# Altium integrated library TI Audio CODEC.IntLib: 199 symbols (part 7 of 17)
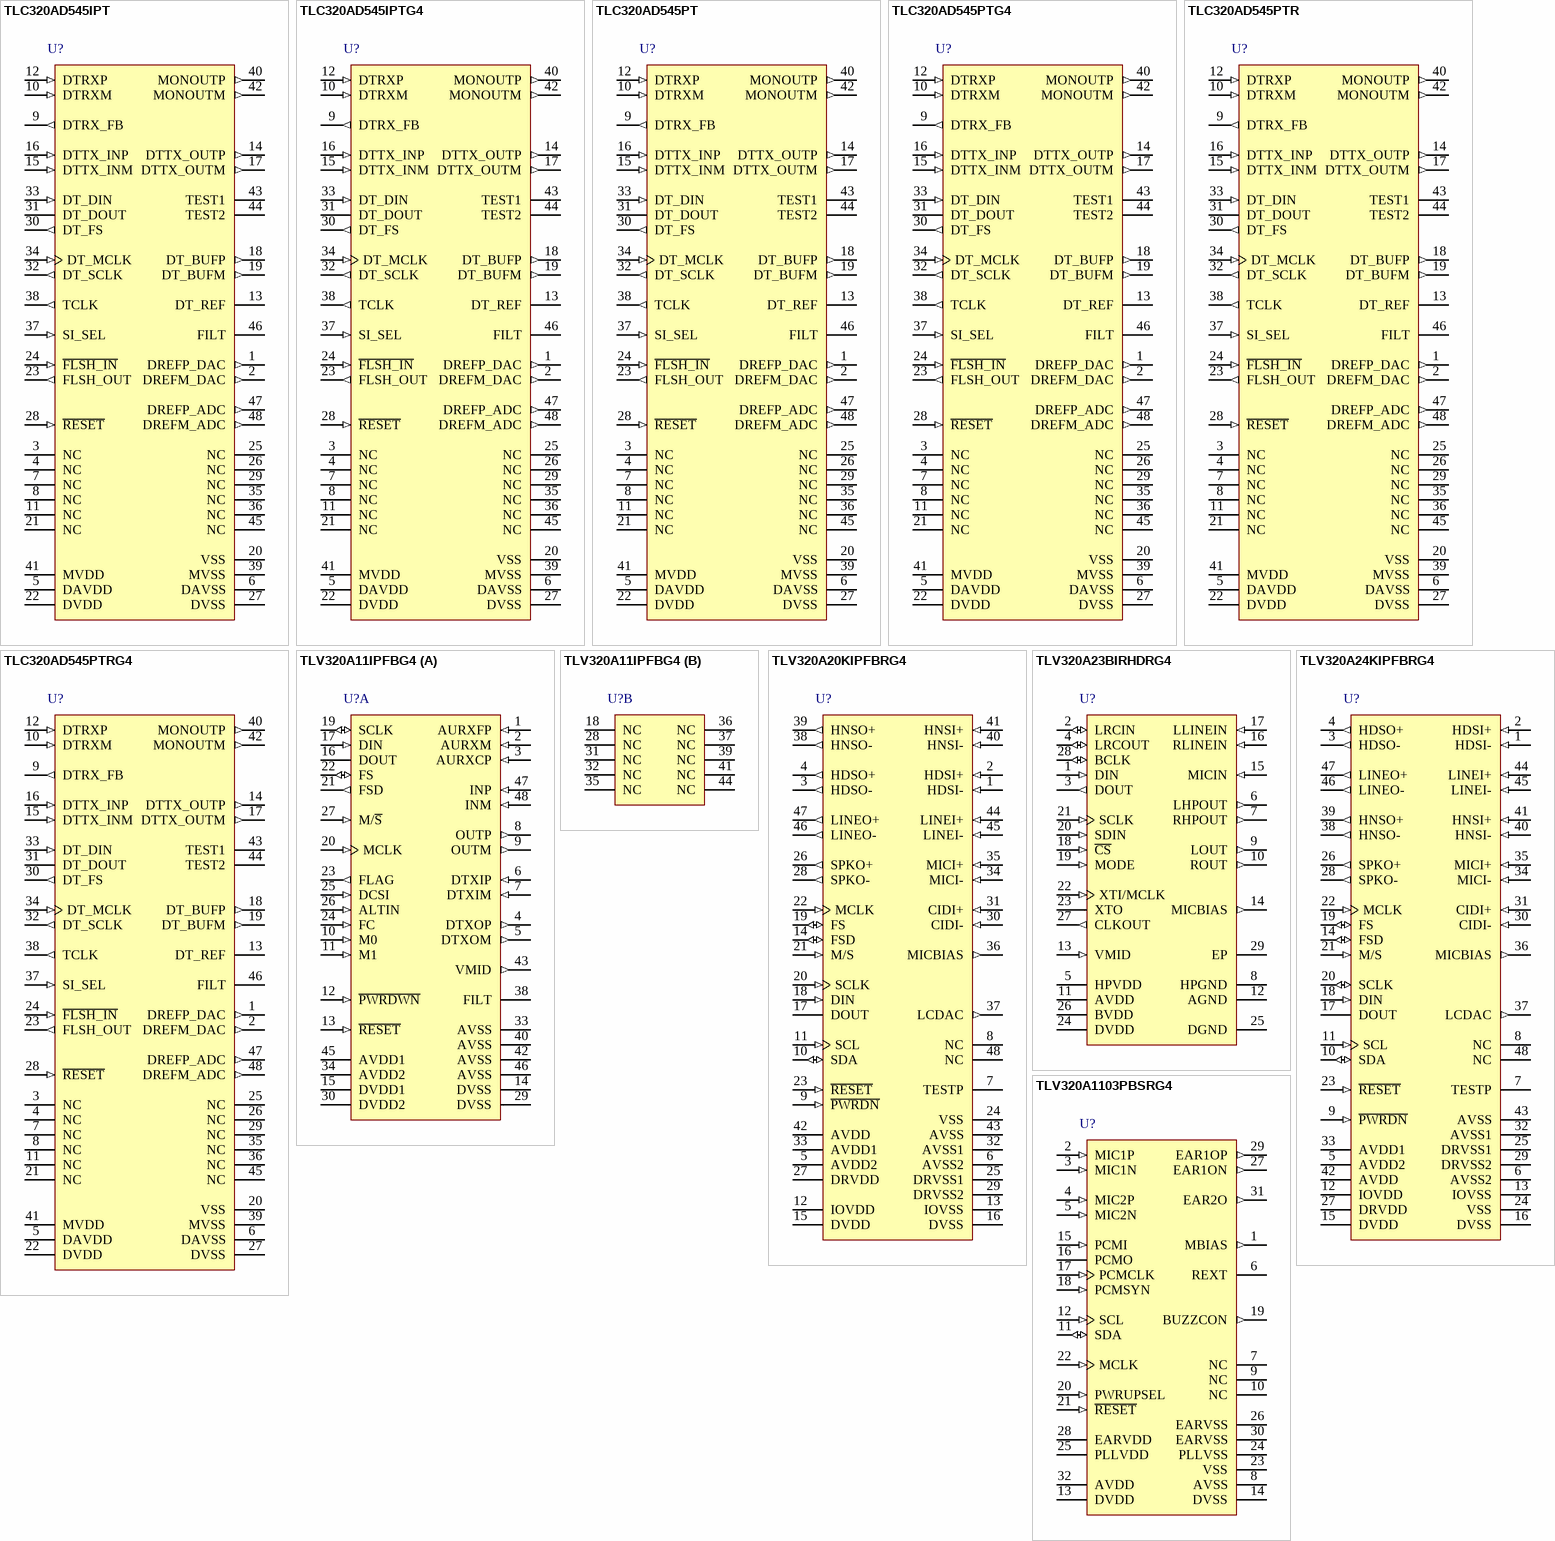
[diagram p19: symbols TLC320AD545IPT to TLV320A1103PBSRG4]

## TLC320AD545PT
designator U?
Single Channel CODEC with Hybrid Op Amps & Speaker Driver, 1 ADC and 1 DAC, 87 dB DAC SNR, 0 to 70 degC, 48-pin LQFP (PT), Green (RoHS & no Sb/Br); Manufacturer: Texas Instruments; PartNumber: TLC320AD545PT; # ADCs (typ): 1; Control Interface: H/W; DAC SNR: 87; Line Powered: TRUE; Sampling Rate (Max) (kHz): 11.025; Speaker Amp Type: Class-AB; DatasheetVersion: SLAS206C; PackageVersion: revC, Nov-1996; PackageReference: PT48; PackageDescription: 48-Pin Plastic Quad Flat Pack, 7 x 7 mm Body, 0.5 mm Pitch; Supplier 1: Digi-Key; Supplier Part Number 1: 296-10277-ND; Supplier 2: Newark; Supplier Part Number 2: 76C7279; Supplier 3: Mouser; Supplier Part Number 3: 595-TLC320AD545PT; # DACs: 1; Mounting Technology: Surface Mount; Code_JEDEC: MS-026; ComponentLink1Description: Datasheet; ComponentLink1URL: http://www.ti.com/general/docs/lit/getliterature.tsp?genericPartNumber=TLC320AD545&fileType=pdf
footprint PT48_N (Thin QFP, 48-Leads, Body 7x7mm, Pitch 0.5mm, IPC Medium Density)
footprint PT48_L (Thin QFP, 48-Leads, Body 7x7mm, Pitch 0.5mm, IPC High Density)
footprint PT48_M (Thin QFP, 48-Leads, Body 7x7mm, Pitch 0.5mm, IPC Low Density)
pins: 1 DREFP_DAC (out) "DAC voltage reference filter output. DREFP_DAC provides for lowpass filtering the internal bandgap reference. The optimal ceramic capacitor value is 0.1 µF connected between DREFM_DAC and DREFP_DAC. The dc voltage at this (See Datasheet)", 2 DREFM_DAC (out) "DAC voltage reference filter output. DREFM_DAC provides for lowpass filtering the internal bandgap reference. The optimal ceramic capacitor value is 0.1  µF connected between DREFM_ADC and DREFP_ADC. The nominal dc voltage (See Datasheet)", 3 NC "No connection", 4 NC "No connection", 5 DAVDD (power) "Analog power supply (5 V/3.3 V)", 6 DAVSS (power) "Analog ground", 7 NC "No connection", 8 NC "No connection", 9 DTRX_FB (out) "Receive path amplifier feedback node. DTRX_FB terminal is connected to the noninverting output of the receive path amplifier and allows a parallel resistor/capacitor to be placed in the amplifier feedback path for setting (See Datasheet)", 10 DTRXM (in) "Receive path amplifier analog inverting input", 11 NC "No connection", 12 DTRXP (in) "Receive path amplifier analog noninverting input", 13 DT_REF "Reference voltage for the transformer at 2.5 V for a 5-V DAVDD supply and 1.5 V for a 3.3-V DAVDD supply. The maximum source or sink current at this terminal is 2.5 mA. DT_REF must be left unconnected in differential hybrid.", 14 DTTX_OUTP (out) "Transmit amplifier analog noninverting output", 15 DTTX_INM (in) "Transmit amplifier analog inverting input. This node is normally fed by the DT_BUFM output through an input resistor", 16 DTTX_INP (in) "Transmit amplifier analog noninverting input. This node is normally fed by the DT_BUFP output through an input resistor. DTTX_INP must be shorted to DTTX_OUTM in single-ended hybrid.", 17 DTTX_OUTM (out) "Transmit amplifier analog inverting output. DTTX_OUTM must be shorted to DTTX_INP in single-ended hybrid.", 18 DT_BUFP (out) "Buffer amp analog noninverting output. DT_BUFP can be programmed for 0 dB, -6 dB, -12 dB and -18 dB gain or muted using the control registers. This output is normally fed to the DTTX_INP terminal through an input resistor. (See Datasheet)", 19 DT_BUFM (out) "Buffer amp analog inverting output. DT_BUFM can be programmed for 0 dB, -6 dB, -12 dB, and -18 dB gain or muted using the control registers. This output is normally fed to the DTTX_INM terminal through an input resistor.", 20 VSS (power) "Internal substrate connection. VSS should be tied to DAVSS .", 21 NC "No connection", 22 DVDD (power) "Digital and RESET circuit power supply (5 V/3.3 V)", 23 FLSH_OUT (out) "Power output to write/erase flash EEPROM device (such as Intel  28F400B or AMD Am29F400). Supplies 45 mA maximum from 5 V when F\L\S\H\_\I\N\ is brought low.", 24 ~{FLSH_IN} (in) "External ASIC logic input. When brought low, F\L\S\H\_\I\N\ enables the FLSH_OUT output.", 25 NC "No connection", 26 NC "No connection", 27 DVSS (power) "Digital and RESET circuit ground", 28 ~{RESET} (in) "Codec device reset. R\E\S\E\T\  initializes all device internal registers to default values. This signal is active low.", 29 NC "No connection", 30 DT_FS (out) "Serial port frame sync signal. DT_FS signals the beginning of transmit for ADC data and receiving of DAC data. This signal can be active high (FS high mode) or active low (FS low mode) depending on the voltage applied to (See Datasheet)", 31 DT_DOUT (hiz) "Digital data output. ADC output bits transmit data during the frame sync period which is synchronized to DT_SCLK. DT_DOUT is at high impedance when DT_FS is not activated.", 32 DT_SCLK (out) "Shift clock signal. DT_SCLK clocks serial data into DT_DIN and out of DT_DOUT during the frame-sync interval. DT_SCLK rate is DT_MCLK/2.", 33 DT_DIN (in) "Digital data input. DT_DIN handles DAC input data as well as control register programming information during frame sync interval and is synchronized to DT_SCLK.", 34 DT_MCLK (in) "Master clock input. All internal clocks are derived from this clock.", 35 NC "No connection", 36 NC "No connection", 37 SI_SEL (in) "Serial interface mode select. When SI_SEL is tied to DVDD,  the serial port is in FS high mode. When SI_SEL is tied to DVSS, the serial port is in FS low mode. (see Section 4, Serial Communications).", 38 TCLK (out) "Test output port. TCLK is for factory test only and should be either connected to ground or left unconnected.", 39 MVSS (power) "Monitor amplifier ground", 40 MONOUTP (out) "Analog output from 8-ohm monitor speaker amplifier which can be set for 0-dB gain or muted through the control registers.", 41 MVDD (power) "Monitor amplifier supply (5 V/3.3 V)", 42 MONOUTM (out) "Analog output from 8-ohm monitor speaker amplifier which can be set for 0-dB gain or muted through the control registers.", 43 TEST1 "Test input port. TEST1 is for factory test only and should be either connected to ground or left unconnected.", 44 TEST2 "Test input port. TEST2 is for factory test only and should be either connected to ground or left unconnected.", 45 NC "No connection", 46 FILT "Bandgap filter node. FILT provides decoupling of the bandgap reference voltage. This reference is 3.375 V with a 5-V supply and 2.25 V with a 3.3-V supply. The optimal capacitor value is 0.1 µF (ceramic). This node should (See Datasheet)", 47 DREFP_ADC (out) "ADC voltage reference filter output. DREFP_ADC provides lowpass filtering for the internal bandgap reference. The optimal ceramic capacitor value is 0.1 µF connected between DREFM_ADC and DREFP_ADC. The dc voltage at this (See Datasheet)", 48 DREFM_ADC (out) "ADC voltage reference filter output. DREFM_ADC provides lowpass filtering for the internal bandgap reference. The optimal ceramic capacitor value is 0.1  µF connected between DREFM_ADC and DREFP_ADC. The nominal dc voltage (See Datasheet)"

## TLC320AD545PTG4
designator U?
Single Channel CODEC with Hybrid Op Amps & Speaker Driver, 1 ADC and 1 DAC, 87 dB DAC SNR, 0 to 70 degC, 48-pin LQFP (PT), Green (RoHS & no Sb/Br); Manufacturer: Texas Instruments; PartNumber: TLC320AD545PTG4; # ADCs (typ): 1; Control Interface: H/W; DAC SNR: 87; Line Powered: TRUE; Sampling Rate (Max) (kHz): 11.025; Speaker Amp Type: Class-AB; DatasheetVersion: SLAS206C; PackageVersion: revC, Nov-1996; PackageReference: PT48; PackageDescription: 48-Pin Plastic Quad Flat Pack, 7 x 7 mm Body, 0.5 mm Pitch; Supplier 1: Digi-Key; Supplier Part Number 1: TLC320AD545PTG4-ND; Supplier 2: Newark; Supplier Part Number 2: 66K4360; Supplier 3: Mouser; Supplier Part Number 3: 595-TLC320AD545PTG4; # DACs: 1; Mounting Technology: Surface Mount; Code_JEDEC: MS-026; ComponentLink1Description: Datasheet; ComponentLink1URL: http://www.ti.com/general/docs/lit/getliterature.tsp?genericPartNumber=TLC320AD545&fileType=pdf
footprint PT48_N (Thin QFP, 48-Leads, Body 7x7mm, Pitch 0.5mm, IPC Medium Density)
footprint PT48_L (Thin QFP, 48-Leads, Body 7x7mm, Pitch 0.5mm, IPC High Density)
footprint PT48_M (Thin QFP, 48-Leads, Body 7x7mm, Pitch 0.5mm, IPC Low Density)
pins: 1 DREFP_DAC (out) "DAC voltage reference filter output. DREFP_DAC provides for lowpass filtering the internal bandgap reference. The optimal ceramic capacitor value is 0.1 µF connected between DREFM_DAC and DREFP_DAC. The dc voltage at this (See Datasheet)", 2 DREFM_DAC (out) "DAC voltage reference filter output. DREFM_DAC provides for lowpass filtering the internal bandgap reference. The optimal ceramic capacitor value is 0.1  µF connected between DREFM_ADC and DREFP_ADC. The nominal dc voltage (See Datasheet)", 3 NC "No connection", 4 NC "No connection", 5 DAVDD (power) "Analog power supply (5 V/3.3 V)", 6 DAVSS (power) "Analog ground", 7 NC "No connection", 8 NC "No connection", 9 DTRX_FB (out) "Receive path amplifier feedback node. DTRX_FB terminal is connected to the noninverting output of the receive path amplifier and allows a parallel resistor/capacitor to be placed in the amplifier feedback path for setting (See Datasheet)", 10 DTRXM (in) "Receive path amplifier analog inverting input", 11 NC "No connection", 12 DTRXP (in) "Receive path amplifier analog noninverting input", 13 DT_REF "Reference voltage for the transformer at 2.5 V for a 5-V DAVDD supply and 1.5 V for a 3.3-V DAVDD supply. The maximum source or sink current at this terminal is 2.5 mA. DT_REF must be left unconnected in differential hybrid.", 14 DTTX_OUTP (out) "Transmit amplifier analog noninverting output", 15 DTTX_INM (in) "Transmit amplifier analog inverting input. This node is normally fed by the DT_BUFM output through an input resistor", 16 DTTX_INP (in) "Transmit amplifier analog noninverting input. This node is normally fed by the DT_BUFP output through an input resistor. DTTX_INP must be shorted to DTTX_OUTM in single-ended hybrid.", 17 DTTX_OUTM (out) "Transmit amplifier analog inverting output. DTTX_OUTM must be shorted to DTTX_INP in single-ended hybrid.", 18 DT_BUFP (out) "Buffer amp analog noninverting output. DT_BUFP can be programmed for 0 dB, -6 dB, -12 dB and -18 dB gain or muted using the control registers. This output is normally fed to the DTTX_INP terminal through an input resistor. (See Datasheet)", 19 DT_BUFM (out) "Buffer amp analog inverting output. DT_BUFM can be programmed for 0 dB, -6 dB, -12 dB, and -18 dB gain or muted using the control registers. This output is normally fed to the DTTX_INM terminal through an input resistor.", 20 VSS (power) "Internal substrate connection. VSS should be tied to DAVSS .", 21 NC "No connection", 22 DVDD (power) "Digital and RESET circuit power supply (5 V/3.3 V)", 23 FLSH_OUT (out) "Power output to write/erase flash EEPROM device (such as Intel  28F400B or AMD Am29F400). Supplies 45 mA maximum from 5 V when F\L\S\H\_\I\N\ is brought low.", 24 ~{FLSH_IN} (in) "External ASIC logic input. When brought low, F\L\S\H\_\I\N\ enables the FLSH_OUT output.", 25 NC "No connection", 26 NC "No connection", 27 DVSS (power) "Digital and RESET circuit ground", 28 ~{RESET} (in) "Codec device reset. R\E\S\E\T\  initializes all device internal registers to default values. This signal is active low.", 29 NC "No connection", 30 DT_FS (out) "Serial port frame sync signal. DT_FS signals the beginning of transmit for ADC data and receiving of DAC data. This signal can be active high (FS high mode) or active low (FS low mode) depending on the voltage applied to (See Datasheet)", 31 DT_DOUT (hiz) "Digital data output. ADC output bits transmit data during the frame sync period which is synchronized to DT_SCLK. DT_DOUT is at high impedance when DT_FS is not activated.", 32 DT_SCLK (out) "Shift clock signal. DT_SCLK clocks serial data into DT_DIN and out of DT_DOUT during the frame-sync interval. DT_SCLK rate is DT_MCLK/2.", 33 DT_DIN (in) "Digital data input. DT_DIN handles DAC input data as well as control register programming information during frame sync interval and is synchronized to DT_SCLK.", 34 DT_MCLK (in) "Master clock input. All internal clocks are derived from this clock.", 35 NC "No connection", 36 NC "No connection", 37 SI_SEL (in) "Serial interface mode select. When SI_SEL is tied to DVDD,  the serial port is in FS high mode. When SI_SEL is tied to DVSS, the serial port is in FS low mode. (see Section 4, Serial Communications).", 38 TCLK (out) "Test output port. TCLK is for factory test only and should be either connected to ground or left unconnected.", 39 MVSS (power) "Monitor amplifier ground", 40 MONOUTP (out) "Analog output from 8-ohm monitor speaker amplifier which can be set for 0-dB gain or muted through the control registers.", 41 MVDD (power) "Monitor amplifier supply (5 V/3.3 V)", 42 MONOUTM (out) "Analog output from 8-ohm monitor speaker amplifier which can be set for 0-dB gain or muted through the control registers.", 43 TEST1 "Test input port. TEST1 is for factory test only and should be either connected to ground or left unconnected.", 44 TEST2 "Test input port. TEST2 is for factory test only and should be either connected to ground or left unconnected.", 45 NC "No connection", 46 FILT "Bandgap filter node. FILT provides decoupling of the bandgap reference voltage. This reference is 3.375 V with a 5-V supply and 2.25 V with a 3.3-V supply. The optimal capacitor value is 0.1 µF (ceramic). This node should (See Datasheet)", 47 DREFP_ADC (out) "ADC voltage reference filter output. DREFP_ADC provides lowpass filtering for the internal bandgap reference. The optimal ceramic capacitor value is 0.1 µF connected between DREFM_ADC and DREFP_ADC. The dc voltage at this (See Datasheet)", 48 DREFM_ADC (out) "ADC voltage reference filter output. DREFM_ADC provides lowpass filtering for the internal bandgap reference. The optimal ceramic capacitor value is 0.1  µF connected between DREFM_ADC and DREFP_ADC. The nominal dc voltage (See Datasheet)"

## TLC320AD545PTR
designator U?
Single Channel CODEC with Hybrid Op Amps & Speaker Driver, 1 ADC and 1 DAC, 87 dB DAC SNR, 0 to 70 degC, 48-pin LQFP (PT), Green (RoHS & no Sb/Br); Manufacturer: Texas Instruments; PartNumber: TLC320AD545PTR; # ADCs (typ): 1; Control Interface: H/W; DAC SNR: 87; Line Powered: TRUE; Sampling Rate (Max) (kHz): 11.025; Speaker Amp Type: Class-AB; DatasheetVersion: SLAS206C; PackageVersion: revC, Nov-1996; PackageReference: PT48; PackageDescription: 48-Pin Plastic Quad Flat Pack, 7 x 7 mm Body, 0.5 mm Pitch; Supplier 1: Digi-Key; Supplier Part Number 1: TLC320AD545PTR-ND; Supplier 2: Newark; Supplier Part Number 2: 76C7280; Supplier 3: Mouser; Supplier Part Number 3: 595-TLC320AD545PTR; # DACs: 1; Mounting Technology: Surface Mount; Code_JEDEC: MS-026; ComponentLink1Description: Datasheet; ComponentLink1URL: http://www.ti.com/general/docs/lit/getliterature.tsp?genericPartNumber=TLC320AD545&fileType=pdf
footprint PT48_N (Thin QFP, 48-Leads, Body 7x7mm, Pitch 0.5mm, IPC Medium Density)
footprint PT48_L (Thin QFP, 48-Leads, Body 7x7mm, Pitch 0.5mm, IPC High Density)
footprint PT48_M (Thin QFP, 48-Leads, Body 7x7mm, Pitch 0.5mm, IPC Low Density)
pins: 1 DREFP_DAC (out) "DAC voltage reference filter output. DREFP_DAC provides for lowpass filtering the internal bandgap reference. The optimal ceramic capacitor value is 0.1 µF connected between DREFM_DAC and DREFP_DAC. The dc voltage at this (See Datasheet)", 2 DREFM_DAC (out) "DAC voltage reference filter output. DREFM_DAC provides for lowpass filtering the internal bandgap reference. The optimal ceramic capacitor value is 0.1  µF connected between DREFM_ADC and DREFP_ADC. The nominal dc voltage (See Datasheet)", 3 NC "No connection", 4 NC "No connection", 5 DAVDD (power) "Analog power supply (5 V/3.3 V)", 6 DAVSS (power) "Analog ground", 7 NC "No connection", 8 NC "No connection", 9 DTRX_FB (out) "Receive path amplifier feedback node. DTRX_FB terminal is connected to the noninverting output of the receive path amplifier and allows a parallel resistor/capacitor to be placed in the amplifier feedback path for setting (See Datasheet)", 10 DTRXM (in) "Receive path amplifier analog inverting input", 11 NC "No connection", 12 DTRXP (in) "Receive path amplifier analog noninverting input", 13 DT_REF "Reference voltage for the transformer at 2.5 V for a 5-V DAVDD supply and 1.5 V for a 3.3-V DAVDD supply. The maximum source or sink current at this terminal is 2.5 mA. DT_REF must be left unconnected in differential hybrid.", 14 DTTX_OUTP (out) "Transmit amplifier analog noninverting output", 15 DTTX_INM (in) "Transmit amplifier analog inverting input. This node is normally fed by the DT_BUFM output through an input resistor", 16 DTTX_INP (in) "Transmit amplifier analog noninverting input. This node is normally fed by the DT_BUFP output through an input resistor. DTTX_INP must be shorted to DTTX_OUTM in single-ended hybrid.", 17 DTTX_OUTM (out) "Transmit amplifier analog inverting output. DTTX_OUTM must be shorted to DTTX_INP in single-ended hybrid.", 18 DT_BUFP (out) "Buffer amp analog noninverting output. DT_BUFP can be programmed for 0 dB, -6 dB, -12 dB and -18 dB gain or muted using the control registers. This output is normally fed to the DTTX_INP terminal through an input resistor. (See Datasheet)", 19 DT_BUFM (out) "Buffer amp analog inverting output. DT_BUFM can be programmed for 0 dB, -6 dB, -12 dB, and -18 dB gain or muted using the control registers. This output is normally fed to the DTTX_INM terminal through an input resistor.", 20 VSS (power) "Internal substrate connection. VSS should be tied to DAVSS .", 21 NC "No connection", 22 DVDD (power) "Digital and RESET circuit power supply (5 V/3.3 V)", 23 FLSH_OUT (out) "Power output to write/erase flash EEPROM device (such as Intel  28F400B or AMD Am29F400). Supplies 45 mA maximum from 5 V when F\L\S\H\_\I\N\ is brought low.", 24 ~{FLSH_IN} (in) "External ASIC logic input. When brought low, F\L\S\H\_\I\N\ enables the FLSH_OUT output.", 25 NC "No connection", 26 NC "No connection", 27 DVSS (power) "Digital and RESET circuit ground", 28 ~{RESET} (in) "Codec device reset. R\E\S\E\T\  initializes all device internal registers to default values. This signal is active low.", 29 NC "No connection", 30 DT_FS (out) "Serial port frame sync signal. DT_FS signals the beginning of transmit for ADC data and receiving of DAC data. This signal can be active high (FS high mode) or active low (FS low mode) depending on the voltage applied to (See Datasheet)", 31 DT_DOUT (hiz) "Digital data output. ADC output bits transmit data during the frame sync period which is synchronized to DT_SCLK. DT_DOUT is at high impedance when DT_FS is not activated.", 32 DT_SCLK (out) "Shift clock signal. DT_SCLK clocks serial data into DT_DIN and out of DT_DOUT during the frame-sync interval. DT_SCLK rate is DT_MCLK/2.", 33 DT_DIN (in) "Digital data input. DT_DIN handles DAC input data as well as control register programming information during frame sync interval and is synchronized to DT_SCLK.", 34 DT_MCLK (in) "Master clock input. All internal clocks are derived from this clock.", 35 NC "No connection", 36 NC "No connection", 37 SI_SEL (in) "Serial interface mode select. When SI_SEL is tied to DVDD,  the serial port is in FS high mode. When SI_SEL is tied to DVSS, the serial port is in FS low mode. (see Section 4, Serial Communications).", 38 TCLK (out) "Test output port. TCLK is for factory test only and should be either connected to ground or left unconnected.", 39 MVSS (power) "Monitor amplifier ground", 40 MONOUTP (out) "Analog output from 8-ohm monitor speaker amplifier which can be set for 0-dB gain or muted through the control registers.", 41 MVDD (power) "Monitor amplifier supply (5 V/3.3 V)", 42 MONOUTM (out) "Analog output from 8-ohm monitor speaker amplifier which can be set for 0-dB gain or muted through the control registers.", 43 TEST1 "Test input port. TEST1 is for factory test only and should be either connected to ground or left unconnected.", 44 TEST2 "Test input port. TEST2 is for factory test only and should be either connected to ground or left unconnected.", 45 NC "No connection", 46 FILT "Bandgap filter node. FILT provides decoupling of the bandgap reference voltage. This reference is 3.375 V with a 5-V supply and 2.25 V with a 3.3-V supply. The optimal capacitor value is 0.1 µF (ceramic). This node should (See Datasheet)", 47 DREFP_ADC (out) "ADC voltage reference filter output. DREFP_ADC provides lowpass filtering for the internal bandgap reference. The optimal ceramic capacitor value is 0.1 µF connected between DREFM_ADC and DREFP_ADC. The dc voltage at this (See Datasheet)", 48 DREFM_ADC (out) "ADC voltage reference filter output. DREFM_ADC provides lowpass filtering for the internal bandgap reference. The optimal ceramic capacitor value is 0.1  µF connected between DREFM_ADC and DREFP_ADC. The nominal dc voltage (See Datasheet)"

## TLC320AD545PTRG4
designator U?
Single Channel CODEC with Hybrid Op Amps & Speaker Driver, 1 ADC and 1 DAC, 87 dB DAC SNR, 0 to 70 degC, 48-pin LQFP (PT), Green (RoHS & no Sb/Br); Manufacturer: Texas Instruments; PartNumber: TLC320AD545PTRG4; # ADCs (typ): 1; Control Interface: H/W; DAC SNR: 87; Line Powered: TRUE; Sampling Rate (Max) (kHz): 11.025; Speaker Amp Type: Class-AB; DatasheetVersion: SLAS206C; PackageVersion: revC, Nov-1996; PackageReference: PT48; PackageDescription: 48-Pin Plastic Quad Flat Pack, 7 x 7 mm Body, 0.5 mm Pitch; Supplier 1: Digi-Key; Supplier Part Number 1: TLC320AD545PTRG4-ND; Supplier 2: Newark; Supplier Part Number 2: 61K1772; Supplier 3: Mouser; Supplier Part Number 3: 595-TLC320AD545PTRG4; # DACs: 1; Mounting Technology: Surface Mount; Code_JEDEC: MS-026; ComponentLink1Description: Datasheet; ComponentLink1URL: http://www.ti.com/general/docs/lit/getliterature.tsp?genericPartNumber=TLC320AD545&fileType=pdf
footprint PT48_N (Thin QFP, 48-Leads, Body 7x7mm, Pitch 0.5mm, IPC Medium Density)
footprint PT48_L (Thin QFP, 48-Leads, Body 7x7mm, Pitch 0.5mm, IPC High Density)
footprint PT48_M (Thin QFP, 48-Leads, Body 7x7mm, Pitch 0.5mm, IPC Low Density)
pins: 1 DREFP_DAC (out) "DAC voltage reference filter output. DREFP_DAC provides for lowpass filtering the internal bandgap reference. The optimal ceramic capacitor value is 0.1 µF connected between DREFM_DAC and DREFP_DAC. The dc voltage at this (See Datasheet)", 2 DREFM_DAC (out) "DAC voltage reference filter output. DREFM_DAC provides for lowpass filtering the internal bandgap reference. The optimal ceramic capacitor value is 0.1  µF connected between DREFM_ADC and DREFP_ADC. The nominal dc voltage (See Datasheet)", 3 NC "No connection", 4 NC "No connection", 5 DAVDD (power) "Analog power supply (5 V/3.3 V)", 6 DAVSS (power) "Analog ground", 7 NC "No connection", 8 NC "No connection", 9 DTRX_FB (out) "Receive path amplifier feedback node. DTRX_FB terminal is connected to the noninverting output of the receive path amplifier and allows a parallel resistor/capacitor to be placed in the amplifier feedback path for setting (See Datasheet)", 10 DTRXM (in) "Receive path amplifier analog inverting input", 11 NC "No connection", 12 DTRXP (in) "Receive path amplifier analog noninverting input", 13 DT_REF "Reference voltage for the transformer at 2.5 V for a 5-V DAVDD supply and 1.5 V for a 3.3-V DAVDD supply. The maximum source or sink current at this terminal is 2.5 mA. DT_REF must be left unconnected in differential hybrid.", 14 DTTX_OUTP (out) "Transmit amplifier analog noninverting output", 15 DTTX_INM (in) "Transmit amplifier analog inverting input. This node is normally fed by the DT_BUFM output through an input resistor", 16 DTTX_INP (in) "Transmit amplifier analog noninverting input. This node is normally fed by the DT_BUFP output through an input resistor. DTTX_INP must be shorted to DTTX_OUTM in single-ended hybrid.", 17 DTTX_OUTM (out) "Transmit amplifier analog inverting output. DTTX_OUTM must be shorted to DTTX_INP in single-ended hybrid.", 18 DT_BUFP (out) "Buffer amp analog noninverting output. DT_BUFP can be programmed for 0 dB, -6 dB, -12 dB and -18 dB gain or muted using the control registers. This output is normally fed to the DTTX_INP terminal through an input resistor. (See Datasheet)", 19 DT_BUFM (out) "Buffer amp analog inverting output. DT_BUFM can be programmed for 0 dB, -6 dB, -12 dB, and -18 dB gain or muted using the control registers. This output is normally fed to the DTTX_INM terminal through an input resistor.", 20 VSS (power) "Internal substrate connection. VSS should be tied to DAVSS .", 21 NC "No connection", 22 DVDD (power) "Digital and RESET circuit power supply (5 V/3.3 V)", 23 FLSH_OUT (out) "Power output to write/erase flash EEPROM device (such as Intel  28F400B or AMD Am29F400). Supplies 45 mA maximum from 5 V when F\L\S\H\_\I\N\ is brought low.", 24 ~{FLSH_IN} (in) "External ASIC logic input. When brought low, F\L\S\H\_\I\N\ enables the FLSH_OUT output.", 25 NC "No connection", 26 NC "No connection", 27 DVSS (power) "Digital and RESET circuit ground", 28 ~{RESET} (in) "Codec device reset. R\E\S\E\T\  initializes all device internal registers to default values. This signal is active low.", 29 NC "No connection", 30 DT_FS (out) "Serial port frame sync signal. DT_FS signals the beginning of transmit for ADC data and receiving of DAC data. This signal can be active high (FS high mode) or active low (FS low mode) depending on the voltage applied to (See Datasheet)", 31 DT_DOUT (hiz) "Digital data output. ADC output bits transmit data during the frame sync period which is synchronized to DT_SCLK. DT_DOUT is at high impedance when DT_FS is not activated.", 32 DT_SCLK (out) "Shift clock signal. DT_SCLK clocks serial data into DT_DIN and out of DT_DOUT during the frame-sync interval. DT_SCLK rate is DT_MCLK/2.", 33 DT_DIN (in) "Digital data input. DT_DIN handles DAC input data as well as control register programming information during frame sync interval and is synchronized to DT_SCLK.", 34 DT_MCLK (in) "Master clock input. All internal clocks are derived from this clock.", 35 NC "No connection", 36 NC "No connection", 37 SI_SEL (in) "Serial interface mode select. When SI_SEL is tied to DVDD,  the serial port is in FS high mode. When SI_SEL is tied to DVSS, the serial port is in FS low mode. (see Section 4, Serial Communications).", 38 TCLK (out) "Test output port. TCLK is for factory test only and should be either connected to ground or left unconnected.", 39 MVSS (power) "Monitor amplifier ground", 40 MONOUTP (out) "Analog output from 8-ohm monitor speaker amplifier which can be set for 0-dB gain or muted through the control registers.", 41 MVDD (power) "Monitor amplifier supply (5 V/3.3 V)", 42 MONOUTM (out) "Analog output from 8-ohm monitor speaker amplifier which can be set for 0-dB gain or muted through the control registers.", 43 TEST1 "Test input port. TEST1 is for factory test only and should be either connected to ground or left unconnected.", 44 TEST2 "Test input port. TEST2 is for factory test only and should be either connected to ground or left unconnected.", 45 NC "No connection", 46 FILT "Bandgap filter node. FILT provides decoupling of the bandgap reference voltage. This reference is 3.375 V with a 5-V supply and 2.25 V with a 3.3-V supply. The optimal capacitor value is 0.1 µF (ceramic). This node should (See Datasheet)", 47 DREFP_ADC (out) "ADC voltage reference filter output. DREFP_ADC provides lowpass filtering for the internal bandgap reference. The optimal ceramic capacitor value is 0.1 µF connected between DREFM_ADC and DREFP_ADC. The dc voltage at this (See Datasheet)", 48 DREFM_ADC (out) "ADC voltage reference filter output. DREFM_ADC provides lowpass filtering for the internal bandgap reference. The optimal ceramic capacitor value is 0.1  µF connected between DREFM_ADC and DREFP_ADC. The nominal dc voltage (See Datasheet)"

## TLV320A11IPFBG4
designator U?
Low-Power Mono Voice Band CODEC with 1 ADC and 1 DAC, 90 dB DAC SNR, -40 to 85 degC, 48-pin TQFP (PFB), Green (RoHS & no Sb/Br); Manufacturer: Texas Instruments; PartNumber: TLV320A11IPFBG4; # ADCs (typ): 1; Additional Features: Low-Voltage I/O Interface; Battery Powered: TRUE; Control Interface: H/W; DAC SNR: 90; Digital Audio Interfaces: DSP; Sampling Rate (Max) (kHz): 22.05; DatasheetVersion: SLWS100A; PackageVersion: Jan-1998; PackageReference: PFB48; PackageDescription: 48-Pin Thin Plastic Quad Flat Pack 0.5 mm Pitch; Supplier 1: Digi-Key; Supplier Part Number 1: TLV320A11IPFBG4-ND; Supplier 2: Newark; Supplier Part Number 2: 70K5543; Supplier 3: Mouser; Supplier Part Number 3: 595-TLV320A11IPFBG4; # DACs: 1; Mounting Technology: Surface Mount; Code_JEDEC: MS-026; ComponentLink1Description: Datasheet; ComponentLink1URL: http://www.ti.com/general/docs/lit/getliterature.tsp?genericPartNumber=TLV320AIC11&fileType=pdf
footprint PFB48_N (Thin QFP, 48-Leads, Body 7x7mm, Pitch 0.5mm, IPC Medium Density)
footprint PFB48_L (Thin QFP, 48-Leads, Body 7x7mm, Pitch 0.5mm, IPC High Density)
footprint PFB48_M (Thin QFP, 48-Leads, Body 7x7mm, Pitch 0.5mm, IPC Low Density)
part A pins: 1 AURXFP (in) "Receiver-path amplifier A1 feedback, or noninverting input to auxiliary analog input. It needs to be connected to AVSS if not used. It can also be used for general-purpose amplification.", 2 AURXM (in) "Receiver-path amplifier A1 inverting input, or inverting input to auxiliary analog input. It needs to be connected to AVSS if not used. It can also be used for general-purpose amplification.", 3 AURXCP (in) "Receiver-path/GP amplifier noninverting input. It needs to be connected to AVSS if not used.", 4 DTXOP (out) "Transmitter-path amplifier A3 feedback for positive output. It can also be used for general-purpose amplification.", 5 DTXOM (out) "Transmitter path amplifier A4 feedback for negative output. It can also be used for general-purpose amplification.", 6 DTXIP (in) "Transmitter-path amplifier A4 analog noninverting input. Can also be used for general-purpose amplification.", 7 DTXIM (in) "Transmitter-path amplifier A3 analog inverting input. It can also be used for general-purpose amplification.", 8 OUTP (out) "DAC’s noninverting output. OUTP can also be used alone for single-ended operation.", 9 OUTM (out) "DAC’s inverting output. OUTM is functionally identical with and complementary to OUTP", 10 M0 (in) "Combine with M1 to select serial interface mode (frame-sync mode)", 11 M1 (in) "Combine with M0 to select serial interface mode (frame-sync mode)", 12 ~{PWRDWN} (in) "Power down. When P\W\R\D\W\N\ is pulled low, the device goes into a power-down mode, the serial interface is disabled, and most of the high-speed clocks are disabled. However, all register values are sustained and the device (See Datasheet)", 13 ~{RESET} (in) "Reset. The reset function is provided to initialize all the internal registers to their default values. The serial port can be configured to the default state accordingly. See Appendix A, Register Set, and Subsection 2.2.1, (See Datasheet)", 14 DVSS (power) "Digital ground", 15 DVDD1 (power) "Dedicated 1.1-V to 3.6-V digital power supply for low-voltage I/O", 16 DOUT (hiz) "Data output. DOUT transmits the ADC output bits and registers data, and is synchronized to SCLK and FS. Data is sent out at the rising edge of SCLK when FS is low. DOUT is at high impedance when FS is not activated.", 17 DIN (in) "Data input. DIN receives the DAC input data and register data from the external digital signal processor (DSP), and is synchronized to SCLK and FS. Data is latched at the falling edge of SCLK when FS is low. DIN is at high (See Datasheet)", 19 SCLK (io) "Shift clock. SCLK signal clocks serial data into DIN and out of DOUT during the frame-sync interval. When configured as an output (M/S\ high), SCLK is generated internally by multiplying the frame-sync signal frequency by (See Datasheet)", 20 MCLK (in) "Master clock. MCLK derives the internal clocks of the sigma-delta analog interface circuit.", 21 FSD (out) "Frame-sync delayed output. The FSD output synchronizes a slave device to the frame sync of the master device. FSD is applied to the slave FS input and has the same duration as the master FS signal. Requires a pullup resistor (See Datasheet)", 22 FS (io) "Frame sync. When FS goes low, DIN begins receiving data bits and DOUT begins transmitting data bits. In master mode, FS is internally generated and is low during data transmission to DIN and from DOUT. In slave mode, FS is (See Datasheet)", 23 FLAG (out) "Controlled by bit D4 of control register 3. If D4=0 (default), the FLAG pin outputs the communication flag that goes low/high to indicate primary-communication/secondary-communication interval, respectively. If D4=1, the (See Datasheet)", 24 FC (in) "Hardware request for secondary communication", 25 DCSI (in) "Direct configuration serial input for directly programming of internal control registers", 26 ALTIN (in) "Serial input in the event monitor mode", 27 M/~{S} (in) "Master/slave select input. When M/S\ is high, the device is the master, and when M/S\ is low, it is a slave.", 29 DVSS (power) "Digital ground", 30 DVDD2 (power) "Dedicated 3-V to 5.5-V digital power supply for core CODEC", 33 AVSS (power) "Analog ground", 34 AVDD2 (power) "Analog ADC power supply (3 V to 5.5 V)", 38 FILT "Bandgap filter. FILT is provided for decoupling of the bandgap reference, and provides 2.5 V. The optimal capacitor value is 0.1 μF (ceramic). This voltage node should be loaded only with a high-impedance dc load.", 40 AVSS (power) "Analog ground", 42 AVSS (power) "Analog ground", 43 VMID (out) "Reference voltage output at AVDD/2", 45 AVDD1 (power) "Analog ADC power supply (3 V to 5.5 V)", 46 AVSS (power) "Analog ground", 47 INP (in) "Noninverting input to analog modulator. INP requires an external R-C antialias filter with low output impedance if the internal antialias filter is bypassed.", 48 INM (in) "Inverting input to analog modulator. INM requires an external R-C antialias filter with low output impedance if the internal antialias filter is bypassed."
part B pins: 18 NC "No connection", 28 NC "No connection", 31 NC "No connection", 32 NC "No connection", 35 NC "No connection", 36 NC "No connection", 37 NC "No connection", 39 NC "No connection", 41 NC "No connection", 44 NC "No connection"

## TLV320A20KIPFBRG4
designator U?
Low-Power Stereo Voice Band CODEC with 8-ohm Speaker Amplifiers, 1 ADC and 1 DAC, 92 dB DAC SNR, -40 to 85 degC, 48-pin TQFP (PFB), Green (RoHS & no Sb/Br); Manufacturer: Texas Instruments; PartNumber: TLV320A20KIPFBRG4; # ADCs (typ): 1; Additional Features: 8 Ohm Speaker Amplifier; Battery Powered: TRUE; Control Interface: I2C, S2C; DAC SNR: 92; Digital Audio Interfaces: DSP, SMART TDM; Sampling Rate (Max) (kHz): 26; Speaker Amp Output Power(Max)(W): 0.25; Speaker Amp Type: Class-AB; DatasheetVersion: SLAS363D; PackageVersion: Jan-1998; PackageReference: PFB48; PackageDescription: 48-Pin Thin Plastic Quad Flat Pack 0.5 mm Pitch; Supplier 1: Digi-Key; Supplier Part Number 1: TLV320A20KIPFBRG4-ND; Supplier 2: Newark; Supplier Part Number 2: 33K7378; Supplier 3: Mouser; Supplier Part Number 3: 595-TLV320A20KIPFBRG; # DACs: 1; Speaker Amp Ouputs: 1; Mounting Technology: Surface Mount; Code_JEDEC: MS-026; ComponentLink1Description: Datasheet; ComponentLink1URL: http://www.ti.com/general/docs/lit/getliterature.tsp?genericPartNumber=TLV320AIC20K&fileType=pdf
footprint PFB48_N (Thin QFP, 48-Leads, Body 7x7mm, Pitch 0.5mm, IPC Medium Density)
footprint PFB48_L (Thin QFP, 48-Leads, Body 7x7mm, Pitch 0.5mm, IPC High Density)
footprint PFB48_M (Thin QFP, 48-Leads, Body 7x7mm, Pitch 0.5mm, IPC Low Density)
pins: 1 HDSI- (in) "Head-set input. The Head-set input can be treated similar to the Line-input pins", 2 HDSI+ (in) "Head-set input. The Head-set input can be treated similar to the Line-input pins", 3 HDSO- (out) "150-ohm output", 4 HDSO+ (out) "150-ohm output", 5 AVDD2 (power) "Analog power supply", 6 AVSS2 (power) "Analog ground", 7 TESTP (power) "Test pin. Should be connected to digital ground.", 8 NC "Not connected", 9 ~{PWRDN} (in) "Power down", 10 SDA (io) "I2C/S2C data", 11 SCL (in) "I2C/S2C clock", 12 IOVDD (power) "I/O power supply", 13 IOVSS (power) "I/O ground", 14 FSD (io) "Frame sync delayed", 15 DVDD (power) "Digital supply (1.8 V)", 16 DVSS (power) "Digital ground", 17 DOUT (hiz) "Data OUT", 18 DIN (in) "Data IN", 19 FS (io) "Frame sync", 20 SCLK (in) "Serial clock", 21 M/S (in) "Master slave select applied to CODEC1 only. CODEC2 is always a slave.", 22 MCLK (in) "Master clock", 23 ~{RESET} (in) "Reset", 24 VSS (power) "Device ground. Typically this should be connected to the Analog Ground.", 25 DRVSS1 (power) "Driver ground", 26 SPKO+ (out) "8-ohm output", 27 DRVDD (power) "Driver supply", 28 SPKO- (out) "8-ohm output", 29 DRVSS2 (power) "Driver ground", 30 CIDI- (in) "Caller-ID input. The Caller-ID input can be treated similar to the Line-input pins", 31 CIDI+ (in) "Caller-ID input. The Caller-ID input can be treated similar to the Line-input pins", 32 AVSS1 (power) "Analog ground", 33 AVDD1 (power) "Analog supply", 34 MICI- (in) "Microphone input", 35 MICI+ (in) "Microphone input", 36 MICBIAS (out) "Microphone bias", 37 LCDAC (out) "6-Bit DAC output may be used to drive LCDAC", 38 HNSO- (out) "150-ohm output", 39 HNSO+ (out) "150-ohm output", 40 HNSI- (in) "Hand-set input. The Hand-set input can be treated similar to the Line-input pins", 41 HNSI+ (in) "Hand-set input. The Hand-set input can be treated similar to the Line-input pins", 42 AVDD (power) "Analog supply", 43 AVSS (power) "Analog ground", 44 LINEI+ (in) "Line input", 45 LINEI- (in) "Line input", 46 LINEO- (out) "600-ohm output", 47 LINEO+ (out) "600-ohm output", 48 NC "Not connected"

## TLV320A23BIRHDRG4
designator U?
Low-Power Stereo CODEC with HP Amplifier, 1 ADC and 1 DAC, 100 dB DAC SNR, -40 to 85 degC, 28-pin VQFN (RHD), Green (RoHS & no Sb/Br); Manufacturer: Texas Instruments; PartNumber: TLV320A23BIRHDRG4; # ADCs (typ): 1; Battery Powered: TRUE; Control Interface: SPI, I2C; DAC SNR: 100; Digital Audio Interfaces: L, R, I2S, DSP; Sampling Rate (Max) (kHz): 96; DatasheetVersion: SLWS106H; PackageVersion: revF, Sep-2011; PackageReference: RHD28-3150X3150TP; PackageDescription: 28-Pin Plastic Quad Flatpack No-Lead, 5 x 5 mm Body, 0.5 mm Pitch, Exposed Pad; Supplier 1: Digi-Key; Supplier Part Number 1: TLV320A23BIRHDRG4-ND; Supplier 2: Newark; Supplier Part Number 2: 54K1339; Supplier 3: Mouser; Supplier Part Number 3: 595-TLV320A23BIRHDRG; # DACs: 1; Headphone Driver: TRUE; Mounting Technology: Surface Mount; Code_JEDEC: MO-220; ComponentLink1Description: Datasheet; ComponentLink1URL: http://www.ti.com/general/docs/lit/getliterature.tsp?genericPartNumber=TLV320AIC23B&fileType=pdf
footprint RHD28-3150X3150TP (QFN, 28-Leads, Body 5x5mm, Pitch 0.5mm, Thermal Pad 3.15x3.15mm, TI Recommended)
pins: 1 DIN (in) "I2S format serial data input to the sigma-delta stereo DAC", 2 LRCIN (io) "I2S DAC-word clock signal. In audio master mode, the AIC23B generates this framing signal and sends it to the DSP. In audio slave mode, the signal is generated by the DSP.", 3 DOUT (out) "I2S format serial data output from the sigma-delta stereo ADC", 4 LRCOUT (io) "I2S ADC-word clock signal. In audio master mode, the AIC23B generates this framing signal and sends it to the DSP. In audio slave mode, the signal is generated by the DSP.", 5 HPVDD (power) "Analog headphone amplifier supply input. Voltage level is 3.3 V nominal.", 6 LHPOUT (out) "Left stereo mixer-channel amplified headphone output. Nominal 0-dB output level is 1 VRMS. Gain of -73 dB to 6 dB is provided in 1-dB steps.", 7 RHPOUT (out) "Right stereo mixer-channel amplified headphone output. Nominal 0-dB output level is 1 VRMS. Gain of -73 dB to 6 dB is provided in 1-dB steps.", 8 HPGND (power) "Analog headphone amplifier supply return", 9 LOUT (out) "Left stereo mixer-channel line output. Nominal output level is 1.0 VRMS.", 10 ROUT (out) "Right stereo mixer-channel line output. Nominal output level is 1.0 VRMS.", 11 AVDD (power) "Analog supply input. Voltage level is 3.3 V nominal.", 12 AGND (power) "Analog supply return", 13 VMID (in) "Midrail voltage decoupling input. 10-uF and 0.1-uF capacitors should be connected in parallel to this terminal for noise filtering. Voltage level is 1/2 AVDD nominal.", 14 MICBIAS (out) "Buffered low-noise-voltage output suitable for electret-microphone-capsule biasing. Voltage level is 3/4 AVDD nominal.", 15 MICIN (in) "Buffered amplifier input suitable for use with electret-microphone capsules. Without external resistors a default gain of 5 is provided. See Section 2.3.1.2 for details.", 16 RLINEIN (in) "Right stereo-line input channel. Nominal 0-dB input level is 1 VRMS. Gain of -34.5 dB to 12 dB is provided in 1.5-dB steps.", 17 LLINEIN (in) "Left stereo-line input channel. Nominal 0-dB input level is 1 VRMS. Gain of -34.5 dB to 12 dB is provided in 1.5-dB steps.", 18 ~{CS} (in) "Control port input latch/address select. For SPI control mode this input acts as the data latch control. For 2-wire control mode this input defines the seventh bit in the device address field. See Section 3.1 for details.", 19 MODE (in) "Serial-interface-mode input. See Section 3.1 for details.", 20 SDIN (in) "Control-port serial-data input. For SPI and 2-wire control modes this is the serial-data input and also is used to select the control protocol after reset. See Section 3.1 for details.", 21 SCLK (in) "Control-port serial-data clock. For SPI and 2-wire control modes this is the serial-clock input. See Section 3.1 for details.", 22 XTI/MCLK (in) "Crystal or external-clock input. Used for derivation of all internal clocks on the AIC23B.", 23 XTO "Crystal output. Connect to external crystal for applications where the AIC23B is the audio timing master. Not used in applications where external clock source is used.", 24 DVDD (power) "Digital supply input. Voltage range is 1.4 V to 3.6 V.", 25 DGND (power) "Digital supply return", 26 BVDD (power) "Buffer supply input. Voltage range is from 2.7 V to 3.6 V", 27 CLKOUT (out) "Clock output. This is a buffered version of the XTI input and is available in 1X or 1/2X frequencies of XTI. Bit 07 in the sample rate control register controls frequency selection.", 28 BCLK (io) "I2S serial-bit clock. In audio master mode, the AIC23B generates this signal and sends it to the DSP. In audio slave mode, the signal is generated by the DSP.", 29 EP "Exposed pad."

## TLV320A24KIPFBRG4
designator U?
Low-Power Stereo Voice Band CODEC with 1 ADC and 1 DAC, 92 dB DAC SNR, -40 to 85 degC, 48-pin TQFP (PFB), Green (RoHS & no Sb/Br); Manufacturer: Texas Instruments; PartNumber: TLV320A24KIPFBRG4; # ADCs (typ): 1; Battery Powered: TRUE; Control Interface: I2C, S2C; DAC SNR: 92; Digital Audio Interfaces: DSP, SMART TDM; Sampling Rate (Max) (kHz): 26; DatasheetVersion: SLAS363D; PackageVersion: Jan-1998; PackageReference: PFB48; PackageDescription: 48-Pin Thin Plastic Quad Flat Pack 0.5 mm Pitch; Supplier 1: Digi-Key; Supplier Part Number 1: TLV320A24KIPFBRG4-ND; Supplier 2: Newark; Supplier Part Number 2: 33K7379; Supplier 3: Mouser; Supplier Part Number 3: 595-TLV320A24KIPFBRG; # DACs: 1; Headphone Driver: TRUE; Mounting Technology: Surface Mount; Code_JEDEC: MS-026; ComponentLink1Description: Datasheet; ComponentLink1URL: http://www.ti.com/general/docs/lit/getliterature.tsp?genericPartNumber=TLV320AIC24K&fileType=pdf
footprint PFB48_N (Thin QFP, 48-Leads, Body 7x7mm, Pitch 0.5mm, IPC Medium Density)
footprint PFB48_L (Thin QFP, 48-Leads, Body 7x7mm, Pitch 0.5mm, IPC High Density)
footprint PFB48_M (Thin QFP, 48-Leads, Body 7x7mm, Pitch 0.5mm, IPC Low Density)
pins: 1 HDSI- (in) "Head-set input. The Head-set input can be treated similar to the Line-input pins", 2 HDSI+ (in) "Head-set input. The Head-set input can be treated similar to the Line-input pins", 3 HDSO- (out) "150-ohm output", 4 HDSO+ (out) "150-ohm output", 5 AVDD2 (power) "Analog power supply", 6 AVSS2 (power) "Analog ground", 7 TESTP (power) "Test pin. Should be connected to digital ground.", 8 NC "Not connected", 9 ~{PWRDN} (in) "Power down", 10 SDA (io) "I2C/S2C data", 11 SCL (in) "I2C/S2C clock", 12 IOVDD (power) "I/O power supply", 13 IOVSS (power) "I/O ground", 14 FSD (io) "Frame sync delayed", 15 DVDD (power) "Digital supply (1.8 V)", 16 DVSS (power) "Digital ground", 17 DOUT (hiz) "Data OUT", 18 DIN (in) "Data IN", 19 FS (io) "Frame sync", 20 SCLK (io) "Serial clock", 21 M/S (in) "Master slave select applied to CODEC1 only. CODEC2 is always a slave.", 22 MCLK (in) "Master clock", 23 ~{RESET} (in) "Reset", 24 VSS (power) "Device ground. Typically this should be connected to the Analog Ground.", 25 DRVSS1 (power) "Driver ground", 26 SPKO+ (out) "8-ohm output", 27 DRVDD (power) "Driver supply", 28 SPKO- (out) "8-ohm output", 29 DRVSS2 (power) "Driver ground", 30 CIDI- (in) "Caller-ID input. The Caller-ID input can be treated similar to the Line-input pins", 31 CIDI+ (in) "Caller-ID input. The Caller-ID input can be treated similar to the Line-input pins", 32 AVSS1 (power) "Analog ground", 33 AVDD1 (power) "Analog supply", 34 MICI- (in) "Microphone input", 35 MICI+ (in) "Microphone input", 36 MICBIAS (out) "Microphone bias", 37 LCDAC (out) "6-Bit DAC output may be used to drive LCDAC", 38 HNSO- (out) "150-ohm output", 39 HNSO+ (out) "150-ohm output", 40 HNSI- (in) "Hand-set input. The Hand-set input can be treated similar to the Line-input pins", 41 HNSI+ (in) "Hand-set input. The Hand-set input can be treated similar to the Line-input pins", 42 AVDD (power) "Analog supply", 43 AVSS (power) "Analog ground", 44 LINEI+ (in) "Line input", 45 LINEI- (in) "Line input", 46 LINEO- (out) "600-ohm output", 47 LINEO+ (out) "600-ohm output", 48 NC "Not connected"

## TLV320A1103PBSRG4
designator U?
Programmable PCM CODEC with Microphone Amps & Speaker Driver, 1 ADC and 1 DAC, -40 to 85 degC, 32-pin TQFP (PBS), Green (RoHS & no Sb/Br); Manufacturer: Texas Instruments; PartNumber: TLV320A1103PBSRG4; # ADCs (typ): 1; Additional Features: A-Law, u-Law; Battery Powered: TRUE; Control Interface: I2C; Sampling Rate (Max) (kHz): 8; DatasheetVersion: SLAS356; PackageVersion: Nov-1995; PackageReference: PBS32; PackageDescription: 32-Pin Thin Plastic Quad Flat Pack 0.5 mm Pitch; Supplier 1: Digi-Key; Supplier Part Number 1: TLV320A1103PBSRG4-ND; Supplier 2: Mouser; Supplier Part Number 2: 595-LV320A1103PBSRG4; # DACs: 1; Digital Audio Interfaces: PCM; Headphone Driver: TRUE; Mounting Technology: Surface Mount; Code_JEDEC: MS-026-AAA; ComponentLink1Description: Datasheet; ComponentLink1URL: http://www.ti.com/general/docs/lit/getliterature.tsp?genericPartNumber=TLV320AIC1103&fileType=pdf
footprint PBS32_N (Thin QFP, 32-Leads, Body 5x5mm, Pitch 0.5mm, IPC Medium Density)
footprint PBS32_L (Thin QFP, 32-Leads, Body 5x5mm, Pitch 0.5mm, IPC High Density)
footprint PBS32_M (Thin QFP, 32-Leads, Body 5x5mm, Pitch 0.5mm, IPC Low Density)
pins: 1 MBIAS (out) "Microphone bias supply output, no decoupling capacitors", 2 MIC1P (in) "MIC1 input (+)", 3 MIC1N (in) "MIC1 input (-)", 4 MIC2P (in) "MIC2 input (+)", 5 MIC2N (in) "MIC2 input (-)", 6 REXT "Internal reference current setting terminal--use precision 100-kohm resistor and no filtering capacitors", 7 NC "No connection", 8 AVSS (power) "Analog negative power supply", 9 NC "No connection", 10 NC "No connection", 11 SDA (io) "I2C-bus serial address/data input/output--this is a bidirectional terminal used to transfer register control addresses and data into and out of the CODEC. It is an open-drain terminal and therefore requires a pullup resistor (See Datasheet)", 12 SCL (in) "I2C-bus serial clock--this input is used to synchronize the data transfer from and to the PCM codec", 13 DVDD (power) "Digital positive power supply", 14 DVSS (power) "Digital negative power supply", 15 PCMI (in) "Receive PCM input", 16 PCMO (hiz) "Transmit PCM output", 17 PCMCLK (in) "PCM data clock", 18 PCMSYN (in) "PCM frame synchronization", 19 BUZZCON (out) "Buzzer output, a pulse-density modulated signal to apply to external buzzer driver", 20 PWRUPSEL (in) "Selects the power-up default mode", 21 ~{RESET} (in) "Active low reset", 22 MCLK (in) "Master system clock input (2.048 MHz) (digital)", 23 VSS (power) "Ground return for bandgap internal reference", 24 PLLVSS (power) "PLL negative power supply", 25 PLLVDD (power) "PLL digital power supply", 26 EARVSS (power) "Analog negative power supply for the earphone amplifiers", 27 EAR1ON (out) "Earphone 1 amplifier output (-)", 28 EARVDD (power) "Analog positive power supply for the earphone amplifiers", 29 EAR1OP (out) "Earphone 1 amplifier output (+)", 30 EARVSS (power) "Analog negative power supply for the earphone amplifiers", 31 EAR2O (out) "Earphone 2 amplifier output", 32 AVDD (power) "Analog positive power supply"

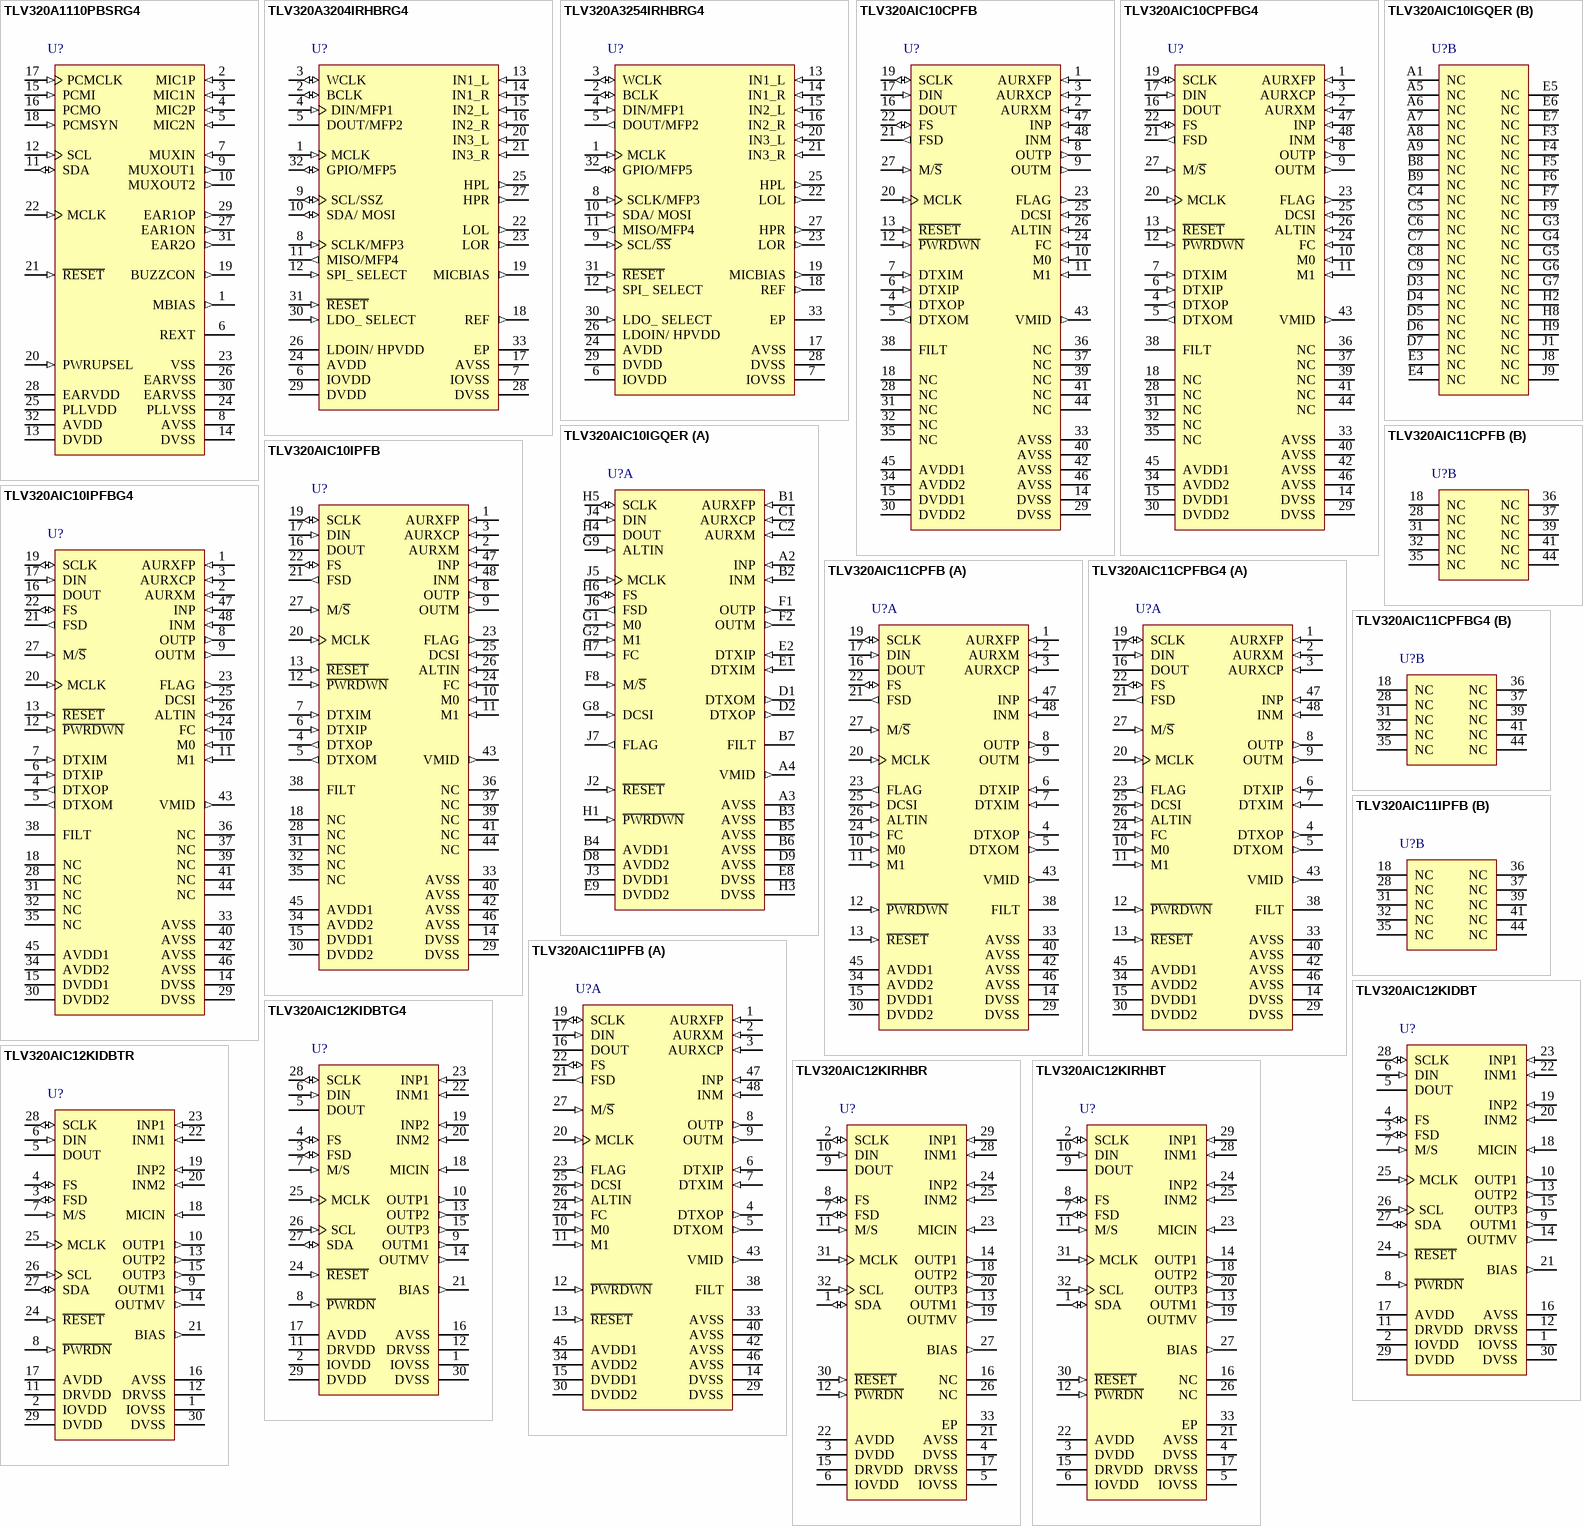
[diagram p6: symbols TLV320A1110PBSRG4 to TLV320AIC12KIRHBT]